# Altium footprint library connectors.PcbLib: 143 footprints (part 7 of 9)
Each footprint in its own frame and in the unit in brackets; x right, y up, seen from the top. Pads: shape width x height; smd on the part's side, far side on the other; paste and mask are expansions set on the pad; w line width, h text height; cw(c..) or ccw(c..) is an arc to the next point about the centre after c.
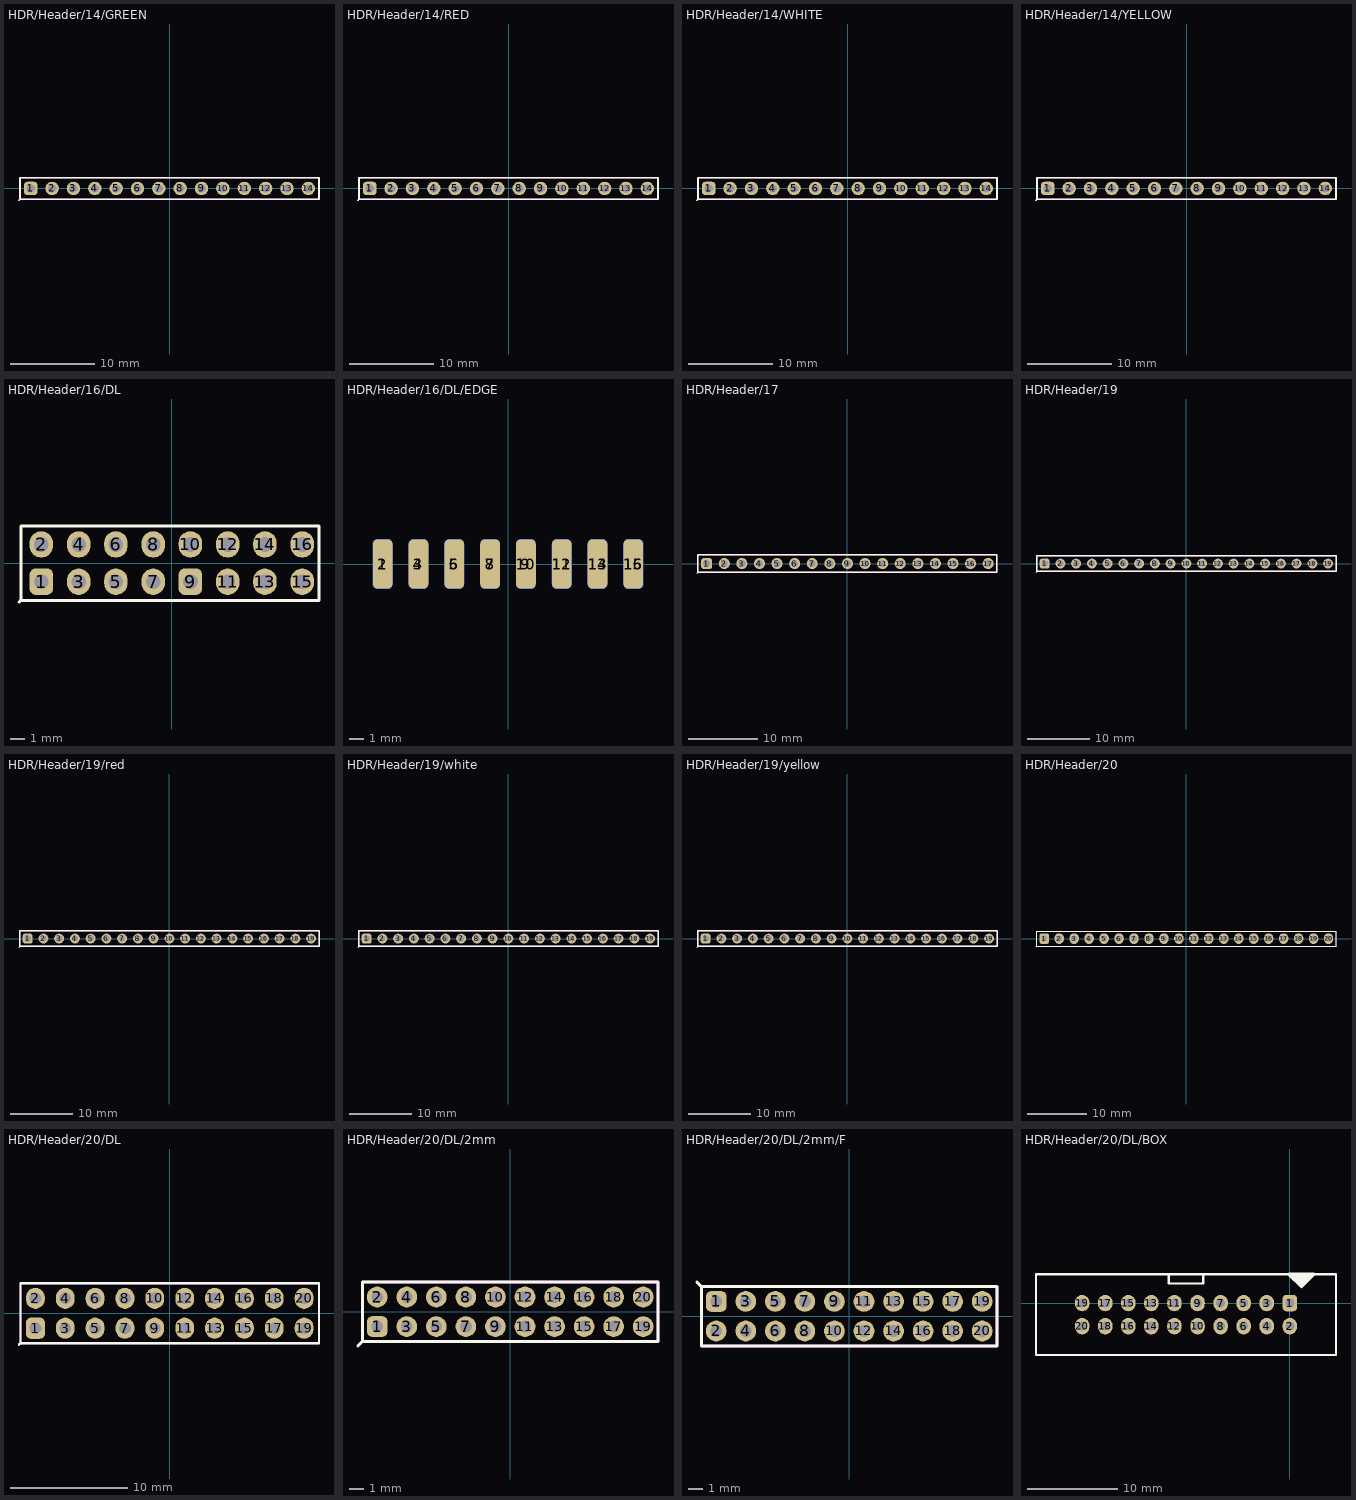
[diagram p6: the footprints below, top view; thin cyan lines are the x and y axes]

## HDR/Header/14/GREEN [mm]
pads (14):
  rrect50% 1.6x1.6 hole 1: 1(-16.51,0)
  round 1.6 hole 1: 2(-13.97,0) 3(-11.43,0) 4(-8.89,0) 5(-6.35,0) 6(-3.81,0) 7(-1.27,0) 8(1.27,0) 9(3.81,0) 10(6.35,0) 11(8.89,0) 12(11.43,0) 13(13.97,0) 14(16.51,0)
Top Overlay:
  lines w0.203: -17.907,-1.397 -17.78,-1.27 ; -17.78,-1.27 17.78,-1.27 17.78,1.27 -17.78,1.27 -17.78,-1.27
Mechanical 1:
  lines w0.203: -17.907,-1.397 -17.78,-1.27 ; -17.78,-1.27 -17.78,1.27 17.78,1.27 17.78,-1.27 -17.78,-1.27
3D body "HEADER 2x1 Pitch 2_54 GREEN.STEP": height 8.38, standoff -2.92, extent -2.54,-1.27 2.54,1.27
3D body "HEADER 2x1 Pitch 2_54 GREEN.STEP": height 8.38, standoff -2.92, extent -7.62,-1.27 -2.54,1.27
3D body "HEADER 2x1 Pitch 2_54 GREEN.STEP": height 8.38, standoff -2.92, extent -12.7,-1.27 -7.62,1.27
3D body "HEADER 2x1 Pitch 2_54 GREEN.STEP": height 8.38, standoff -2.92, extent -17.78,-1.27 -12.7,1.27
3D body "HEADER 2x1 Pitch 2_54 GREEN.STEP": height 8.38, standoff -2.92, extent 2.54,-1.27 7.62,1.27
3D body "HEADER 2x1 Pitch 2_54 GREEN.STEP": height 8.38, standoff -2.92, extent 7.62,-1.27 12.7,1.27
3D body "HEADER 2x1 Pitch 2_54 GREEN.STEP": height 8.38, standoff -2.92, extent 12.7,-1.27 17.78,1.27

## HDR/Header/14/RED [mm]
pads (14):
  rrect50% 1.6x1.6 hole 1: 1(-16.51,0)
  round 1.6 hole 1: 2(-13.97,0) 3(-11.43,0) 4(-8.89,0) 5(-6.35,0) 6(-3.81,0) 7(-1.27,0) 8(1.27,0) 9(3.81,0) 10(6.35,0) 11(8.89,0) 12(11.43,0) 13(13.97,0) 14(16.51,0)
Top Overlay:
  lines w0.203: -17.907,-1.397 -17.78,-1.27 ; -17.78,-1.27 17.78,-1.27 17.78,1.27 -17.78,1.27 -17.78,-1.27
Mechanical 1:
  lines w0.203: -17.907,-1.397 -17.78,-1.27 ; -17.78,-1.27 -17.78,1.27 17.78,1.27 17.78,-1.27 -17.78,-1.27
3D body "HEADER 2x1 Pitch 2_54 RED.STEP": height 8.38, standoff -2.92, extent -17.78,-1.27 -12.7,1.27
3D body "HEADER 2x1 Pitch 2_54 RED.STEP": height 8.38, standoff -2.92, extent -12.7,-1.27 -7.62,1.27
3D body "HEADER 2x1 Pitch 2_54 RED.STEP": height 8.38, standoff -2.92, extent -7.62,-1.27 -2.54,1.27
3D body "HEADER 2x1 Pitch 2_54 RED.STEP": height 8.38, standoff -2.92, extent -2.54,-1.27 2.54,1.27
3D body "HEADER 2x1 Pitch 2_54 RED.STEP": height 8.38, standoff -2.92, extent 2.54,-1.27 7.62,1.27
3D body "HEADER 2x1 Pitch 2_54 RED.STEP": height 8.38, standoff -2.92, extent 7.62,-1.27 12.7,1.27
3D body "HEADER 2x1 Pitch 2_54 RED.STEP": height 8.38, standoff -2.92, extent 12.7,-1.27 17.78,1.27

## HDR/Header/14/WHITE [mm]
pads (14):
  rrect50% 1.6x1.6 hole 1: 1(-16.51,0)
  round 1.6 hole 1: 2(-13.97,0) 3(-11.43,0) 4(-8.89,0) 5(-6.35,0) 6(-3.81,0) 7(-1.27,0) 8(1.27,0) 9(3.81,0) 10(6.35,0) 11(8.89,0) 12(11.43,0) 13(13.97,0) 14(16.51,0)
Top Overlay:
  lines w0.203: -17.907,-1.397 -17.78,-1.27 ; -17.78,-1.27 -17.78,1.27 17.78,1.27 17.78,-1.27 -17.78,-1.27
Mechanical 1:
  lines w0.203: -17.907,-1.397 -17.78,-1.27 ; -17.78,-1.27 17.78,-1.27 17.78,1.27 -17.78,1.27 -17.78,-1.27
3D body "HEADER 2x1 Pitch 2_54 WHITE.STEP": height 8.38, standoff -2.92, extent 12.7,-1.27 17.78,1.27
3D body "HEADER 2x1 Pitch 2_54 WHITE.STEP": height 8.38, standoff -2.92, extent 7.62,-1.27 12.7,1.27
3D body "HEADER 2x1 Pitch 2_54 WHITE.STEP": height 8.38, standoff -2.92, extent 2.54,-1.27 7.62,1.27
3D body "HEADER 2x1 Pitch 2_54 WHITE.STEP": height 8.38, standoff -2.92, extent -17.78,-1.27 -12.7,1.27
3D body "HEADER 2x1 Pitch 2_54 WHITE.STEP": height 8.38, standoff -2.92, extent -12.7,-1.27 -7.62,1.27
3D body "HEADER 2x1 Pitch 2_54 WHITE.STEP": height 8.38, standoff -2.92, extent -7.62,-1.27 -2.54,1.27
3D body "HEADER 2x1 Pitch 2_54 WHITE.STEP": height 8.38, standoff -2.92, extent -2.54,-1.27 2.54,1.27

## HDR/Header/14/YELLOW [mm]
pads (14):
  rrect50% 1.6x1.6 hole 1: 1(-16.51,0)
  round 1.6 hole 1: 2(-13.97,0) 3(-11.43,0) 4(-8.89,0) 5(-6.35,0) 6(-3.81,0) 7(-1.27,0) 8(1.27,0) 9(3.81,0) 10(6.35,0) 11(8.89,0) 12(11.43,0) 13(13.97,0) 14(16.51,0)
Top Overlay:
  lines w0.203: -17.907,-1.397 -17.78,-1.27 ; -17.78,-1.27 17.78,-1.27 17.78,1.27 -17.78,1.27 -17.78,-1.27
Mechanical 1:
  lines w0.203: -17.907,-1.397 -17.78,-1.27 ; -17.78,-1.27 -17.78,1.27 17.78,1.27 17.78,-1.27 -17.78,-1.27
3D body "HEADER 2x1 Pitch 2_54 YELLOW.STEP": height 8.38, standoff -2.92, extent -2.54,-1.27 2.54,1.27
3D body "HEADER 2x1 Pitch 2_54 YELLOW.STEP": height 8.38, standoff -2.92, extent -7.62,-1.27 -2.54,1.27
3D body "HEADER 2x1 Pitch 2_54 YELLOW.STEP": height 8.38, standoff -2.92, extent -12.7,-1.27 -7.62,1.27
3D body "HEADER 2x1 Pitch 2_54 YELLOW.STEP": height 8.38, standoff -2.92, extent -17.78,-1.27 -12.7,1.27
3D body "HEADER 2x1 Pitch 2_54 YELLOW.STEP": height 8.38, standoff -2.92, extent 2.54,-1.27 7.62,1.27
3D body "HEADER 2x1 Pitch 2_54 YELLOW.STEP": height 8.38, standoff -2.92, extent 7.62,-1.27 12.7,1.27
3D body "HEADER 2x1 Pitch 2_54 YELLOW.STEP": height 8.38, standoff -2.92, extent 12.7,-1.27 17.78,1.27

## HDR/Header/16/DL [mm]
pads (16):
  rrect50% 1.6x1.8 hole 1: 1(-8.89,-1.27) 9(1.27,-1.27)
  oval 1.6x1.8 hole 1: 2(-8.89,1.27) 3(-6.35,-1.27) 4(-6.35,1.27) 5(-3.81,-1.27) 6(-3.81,1.27) 7(-1.27,-1.27) 8(-1.27,1.27) 10(1.27,1.27) 11(3.81,-1.27) 12(3.81,1.27) 13(6.35,-1.27) 14(6.35,1.27) 15(8.89,-1.27) 16(8.89,1.27)
Top Overlay:
  lines w0.203: -10.414,-2.667 -10.287,-2.54 ; -10.287,-2.54 10.033,-2.54 10.033,2.54 -10.287,2.54 -10.287,-2.54
3D body "Samtec Header 4pin 2.54mm.STEP": height 8.89, standoff -2.03, extent -10.16,-2.54 0,0
3D body "Samtec Header 4pin 2.54mm.STEP": height 8.89, standoff -2.03, extent -10.16,0 0,2.54
3D body "Samtec Header 4pin 2.54mm.STEP": height 8.89, standoff -2.03, extent 0,0 10.16,2.54
3D body "Samtec Header 4pin 2.54mm.STEP": height 8.89, standoff -2.03, extent 0,-2.54 10.16,0

## HDR/Header/16/DL/EDGE [mm]
pads (16):
  rrect50% 1.4x3.5 smd: 1(-8.89,0) 3(-6.35,0) 5(-3.81,0) 7(-1.27,0) 9(1.27,0) 11(3.81,0) 13(6.35,0) 15(8.89,0)
  rrect50% 1.4x3.5 smd far side: 2(-8.89,0) 4(-6.35,0) 6(-3.81,0) 8(-1.27,0) 10(1.27,0) 12(3.81,0) 14(6.35,0) 16(8.89,0)
3D body "Samtec Header 4pin 2.54mm.STEP": height -0.97, standoff -3.51, extent 0,-0.127 10.16,10.795
3D body "Samtec Header 4pin 2.54mm.STEP": height 1.57, standoff -0.97, extent 0,-0.127 10.16,10.795
3D body "Samtec Header 4pin 2.54mm.STEP": height 1.57, standoff -0.97, extent -10.16,-0.127 0,10.795
3D body "Samtec Header 4pin 2.54mm.STEP": height -0.97, standoff -3.51, extent -10.16,-0.127 0,10.795

## HDR/Header/17 [mm]
pads (17):
  rrect50% 1.6x1.6 hole 1: 1(-20.32,0)
  round 1.6 hole 1: 2(-17.78,0) 3(-15.24,0) 4(-12.7,0) 5(-10.16,0) 6(-7.62,0) 7(-5.08,0) 8(-2.54,0) 9(0,0) 10(2.54,0) 11(5.08,0) 12(7.62,0) 13(10.16,0) 14(12.7,0) 15(15.24,0) 16(17.78,0) 17(20.32,0)
Top Overlay:
  lines w0.203: -21.717,-1.397 -21.59,-1.27 ; -21.59,-1.27 -21.59,1.27 21.59,1.27 21.59,-1.27 -21.59,-1.27
Mechanical 1:
  lines w0.203: -21.717,-1.397 -21.59,-1.27 ; -21.59,-1.27 21.59,-1.27 21.59,1.27 -21.59,1.27 -21.59,-1.27
3D body "Samtec Header 2pin 2.54mm.STEP": height 8.89, standoff -2.03, extent -21.59,-1.27 -16.51,1.27
3D body "Samtec Header 3pin 2.54mm.STEP": height 8.89, standoff -2.03, extent -16.51,-1.27 -8.89,1.27
3D body "Samtec Header 2pin 2.54mm.STEP": height 8.89, standoff -2.03, extent -8.89,-1.27 -3.81,1.27
3D body "Samtec Header 3pin 2.54mm.STEP": height 8.89, standoff -2.03, extent -3.81,-1.27 3.81,1.27
3D body "Samtec Header 2pin 2.54mm.STEP": height 8.89, standoff -2.03, extent 3.81,-1.27 8.89,1.27
3D body "Samtec Header 3pin 2.54mm.STEP": height 8.89, standoff -2.03, extent 8.89,-1.27 16.51,1.27
3D body "Samtec Header 2pin 2.54mm.STEP": height 8.89, standoff -2.03, extent 16.51,-1.27 21.59,1.27

## HDR/Header/19 [mm]
pads (19):
  rrect50% 1.6x1.6 hole 1: 1(-22.86,0)
  round 1.6 hole 1: 2(-20.32,0) 3(-17.78,0) 4(-15.24,0) 5(-12.7,0) 6(-10.16,0) 7(-7.62,0) 8(-5.08,0) 9(-2.54,0) 10(0,0) 11(2.54,0) 12(5.08,0) 13(7.62,0) 14(10.16,0) 15(12.7,0) 16(15.24,0) 17(17.78,0) 18(20.32,0) 19(22.86,0)
Top Overlay:
  lines w0.203: -24.257,-1.397 -24.13,-1.27 ; -24.13,-1.27 24.13,-1.27 24.13,1.27 -24.13,1.27 -24.13,-1.27
Mechanical 1:
  lines w0.203: -24.257,-1.397 -24.13,-1.27 ; -24.13,-1.27 -24.13,1.27 24.13,1.27 24.13,-1.27 -24.13,-1.27
3D body "header-1-black.STEP": height 8.89, standoff -3.05, extent 13.97,-1.27 16.51,1.27
3D body "header-1-black.STEP": height 8.89, standoff -3.05, extent 16.51,-1.27 19.05,1.27
3D body "header-1-black.STEP": height 8.89, standoff -3.05, extent 19.05,-1.27 21.59,1.27
3D body "header-1-black.STEP": height 8.89, standoff -3.05, extent 21.59,-1.27 24.13,1.27
3D body "header-1-black.STEP": height 8.89, standoff -3.05, extent 1.27,-1.27 3.81,1.27
3D body "header-1-black.STEP": height 8.89, standoff -3.05, extent 3.81,-1.27 6.35,1.27
3D body "header-1-black.STEP": height 8.89, standoff -3.05, extent 6.35,-1.27 8.89,1.27
3D body "header-1-black.STEP": height 8.89, standoff -3.05, extent 8.89,-1.27 11.43,1.27
3D body "header-1-black.STEP": height 8.89, standoff -3.05, extent 11.43,-1.27 13.97,1.27
3D body "header-1-black.STEP": height 8.89, standoff -3.05, extent -11.43,-1.27 -8.89,1.27
3D body "header-1-black.STEP": height 8.89, standoff -3.05, extent -8.89,-1.27 -6.35,1.27
3D body "header-1-black.STEP": height 8.89, standoff -3.05, extent -6.35,-1.27 -3.81,1.27
3D body "header-1-black.STEP": height 8.89, standoff -3.05, extent -3.81,-1.27 -1.27,1.27
3D body "header-1-black.STEP": height 8.89, standoff -3.05, extent -1.27,-1.27 1.27,1.27
3D body "header-1-black.STEP": height 8.89, standoff -3.05, extent -13.97,-1.27 -11.43,1.27
3D body "header-1-black.STEP": height 8.89, standoff -3.05, extent -16.51,-1.27 -13.97,1.27
3D body "header-1-black.STEP": height 8.89, standoff -3.05, extent -19.05,-1.27 -16.51,1.27
3D body "header-1-black.STEP": height 8.89, standoff -3.05, extent -21.59,-1.27 -19.05,1.27
3D body "header-1-black.STEP": height 8.89, standoff -3.05, extent -24.13,-1.27 -21.59,1.27

## HDR/Header/19/red [mm]
pads (19):
  rrect50% 1.6x1.6 hole 1: 1(-22.86,0)
  round 1.6 hole 1: 2(-20.32,0) 3(-17.78,0) 4(-15.24,0) 5(-12.7,0) 6(-10.16,0) 7(-7.62,0) 8(-5.08,0) 9(-2.54,0) 10(0,0) 11(2.54,0) 12(5.08,0) 13(7.62,0) 14(10.16,0) 15(12.7,0) 16(15.24,0) 17(17.78,0) 18(20.32,0) 19(22.86,0)
Top Overlay:
  lines w0.203: -24.257,-1.397 -24.13,-1.27 ; -24.13,-1.27 24.13,-1.27 24.13,1.27 -24.13,1.27 -24.13,-1.27
Mechanical 1:
  lines w0.203: -24.257,-1.397 -24.13,-1.27 ; -24.13,-1.27 -24.13,1.27 24.13,1.27 24.13,-1.27 -24.13,-1.27
3D body "header-1-red.STEP": height 8.89, standoff -3.05, extent 16.51,-1.27 19.05,1.27
3D body "header-1-red.STEP": height 8.89, standoff -3.05, extent 19.05,-1.27 21.59,1.27
3D body "header-1-red.STEP": height 8.89, standoff -3.05, extent 21.59,-1.27 24.13,1.27
3D body "header-1-red.STEP": height 8.89, standoff -3.05, extent 6.35,-1.27 8.89,1.27
3D body "header-1-red.STEP": height 8.89, standoff -3.05, extent 8.89,-1.27 11.43,1.27
3D body "header-1-red.STEP": height 8.89, standoff -3.05, extent 11.43,-1.27 13.97,1.27
3D body "header-1-red.STEP": height 8.89, standoff -3.05, extent 13.97,-1.27 16.51,1.27
3D body "header-1-red.STEP": height 8.89, standoff -3.05, extent -3.81,-1.27 -1.27,1.27
3D body "header-1-red.STEP": height 8.89, standoff -3.05, extent -1.27,-1.27 1.27,1.27
3D body "header-1-red.STEP": height 8.89, standoff -3.05, extent 1.27,-1.27 3.81,1.27
3D body "header-1-red.STEP": height 8.89, standoff -3.05, extent 3.81,-1.27 6.35,1.27
3D body "header-1-red.STEP": height 8.89, standoff -3.05, extent -13.97,-1.27 -11.43,1.27
3D body "header-1-red.STEP": height 8.89, standoff -3.05, extent -11.43,-1.27 -8.89,1.27
3D body "header-1-red.STEP": height 8.89, standoff -3.05, extent -8.89,-1.27 -6.35,1.27
3D body "header-1-red.STEP": height 8.89, standoff -3.05, extent -6.35,-1.27 -3.81,1.27
3D body "header-1-red.STEP": height 8.89, standoff -3.05, extent -16.51,-1.27 -13.97,1.27
3D body "header-1-red.STEP": height 8.89, standoff -3.05, extent -19.05,-1.27 -16.51,1.27
3D body "header-1-red.STEP": height 8.89, standoff -3.05, extent -21.59,-1.27 -19.05,1.27
3D body "header-1-red.STEP": height 8.89, standoff -3.05, extent -24.13,-1.27 -21.59,1.27

## HDR/Header/19/white [mm]
pads (19):
  rrect50% 1.6x1.6 hole 1: 1(-22.86,0)
  round 1.6 hole 1: 2(-20.32,0) 3(-17.78,0) 4(-15.24,0) 5(-12.7,0) 6(-10.16,0) 7(-7.62,0) 8(-5.08,0) 9(-2.54,0) 10(0,0) 11(2.54,0) 12(5.08,0) 13(7.62,0) 14(10.16,0) 15(12.7,0) 16(15.24,0) 17(17.78,0) 18(20.32,0) 19(22.86,0)
Top Overlay:
  lines w0.203: -24.257,-1.397 -24.13,-1.27 ; -24.13,-1.27 -24.13,1.27 24.13,1.27 24.13,-1.27 -24.13,-1.27
Mechanical 1:
  lines w0.203: -24.257,-1.397 -24.13,-1.27 ; -24.13,-1.27 24.13,-1.27 24.13,1.27 -24.13,1.27 -24.13,-1.27
3D body "header-1-white.STEP": height 8.89, standoff -3.05, extent -24.13,-1.27 -21.59,1.27
3D body "header-1-white.STEP": height 8.89, standoff -3.05, extent -21.59,-1.27 -19.05,1.27
3D body "header-1-white.STEP": height 8.89, standoff -3.05, extent -19.05,-1.27 -16.51,1.27
3D body "header-1-white.STEP": height 8.89, standoff -3.05, extent -16.51,-1.27 -13.97,1.27
3D body "header-1-white.STEP": height 8.89, standoff -3.05, extent -6.35,-1.27 -3.81,1.27
3D body "header-1-white.STEP": height 8.89, standoff -3.05, extent -8.89,-1.27 -6.35,1.27
3D body "header-1-white.STEP": height 8.89, standoff -3.05, extent -11.43,-1.27 -8.89,1.27
3D body "header-1-white.STEP": height 8.89, standoff -3.05, extent -13.97,-1.27 -11.43,1.27
3D body "header-1-white.STEP": height 8.89, standoff -3.05, extent 3.81,-1.27 6.35,1.27
3D body "header-1-white.STEP": height 8.89, standoff -3.05, extent 1.27,-1.27 3.81,1.27
3D body "header-1-white.STEP": height 8.89, standoff -3.05, extent -1.27,-1.27 1.27,1.27
3D body "header-1-white.STEP": height 8.89, standoff -3.05, extent -3.81,-1.27 -1.27,1.27
3D body "header-1-white.STEP": height 8.89, standoff -3.05, extent 13.97,-1.27 16.51,1.27
3D body "header-1-white.STEP": height 8.89, standoff -3.05, extent 11.43,-1.27 13.97,1.27
3D body "header-1-white.STEP": height 8.89, standoff -3.05, extent 8.89,-1.27 11.43,1.27
3D body "header-1-white.STEP": height 8.89, standoff -3.05, extent 6.35,-1.27 8.89,1.27
3D body "header-1-white.STEP": height 8.89, standoff -3.05, extent 21.59,-1.27 24.13,1.27
3D body "header-1-white.STEP": height 8.89, standoff -3.05, extent 19.05,-1.27 21.59,1.27
3D body "header-1-white.STEP": height 8.89, standoff -3.05, extent 16.51,-1.27 19.05,1.27

## HDR/Header/19/yellow [mm]
pads (19):
  rrect50% 1.6x1.6 hole 1: 1(-22.86,0)
  round 1.6 hole 1: 2(-20.32,0) 3(-17.78,0) 4(-15.24,0) 5(-12.7,0) 6(-10.16,0) 7(-7.62,0) 8(-5.08,0) 9(-2.54,0) 10(0,0) 11(2.54,0) 12(5.08,0) 13(7.62,0) 14(10.16,0) 15(12.7,0) 16(15.24,0) 17(17.78,0) 18(20.32,0) 19(22.86,0)
Top Overlay:
  lines w0.203: -24.257,-1.397 -24.13,-1.27 ; -24.13,-1.27 24.13,-1.27 24.13,1.27 -24.13,1.27 -24.13,-1.27
Mechanical 1:
  lines w0.203: -24.257,-1.397 -24.13,-1.27 ; -24.13,-1.27 -24.13,1.27 24.13,1.27 24.13,-1.27 -24.13,-1.27
3D body "header-1-yellow.STEP": height 8.89, standoff -3.05, extent 16.51,-1.27 19.05,1.27
3D body "header-1-yellow.STEP": height 8.89, standoff -3.05, extent 19.05,-1.27 21.59,1.27
3D body "header-1-yellow.STEP": height 8.89, standoff -3.05, extent 21.59,-1.27 24.13,1.27
3D body "header-1-yellow.STEP": height 8.89, standoff -3.05, extent 6.35,-1.27 8.89,1.27
3D body "header-1-yellow.STEP": height 8.89, standoff -3.05, extent 8.89,-1.27 11.43,1.27
3D body "header-1-yellow.STEP": height 8.89, standoff -3.05, extent 11.43,-1.27 13.97,1.27
3D body "header-1-yellow.STEP": height 8.89, standoff -3.05, extent 13.97,-1.27 16.51,1.27
3D body "header-1-yellow.STEP": height 8.89, standoff -3.05, extent -3.81,-1.27 -1.27,1.27
3D body "header-1-yellow.STEP": height 8.89, standoff -3.05, extent -1.27,-1.27 1.27,1.27
3D body "header-1-yellow.STEP": height 8.89, standoff -3.05, extent 1.27,-1.27 3.81,1.27
3D body "header-1-yellow.STEP": height 8.89, standoff -3.05, extent 3.81,-1.27 6.35,1.27
3D body "header-1-yellow.STEP": height 8.89, standoff -3.05, extent -13.97,-1.27 -11.43,1.27
3D body "header-1-yellow.STEP": height 8.89, standoff -3.05, extent -11.43,-1.27 -8.89,1.27
3D body "header-1-yellow.STEP": height 8.89, standoff -3.05, extent -8.89,-1.27 -6.35,1.27
3D body "header-1-yellow.STEP": height 8.89, standoff -3.05, extent -6.35,-1.27 -3.81,1.27
3D body "header-1-yellow.STEP": height 8.89, standoff -3.05, extent -16.51,-1.27 -13.97,1.27
3D body "header-1-yellow.STEP": height 8.89, standoff -3.05, extent -19.05,-1.27 -16.51,1.27
3D body "header-1-yellow.STEP": height 8.89, standoff -3.05, extent -21.59,-1.27 -19.05,1.27
3D body "header-1-yellow.STEP": height 8.89, standoff -3.05, extent -24.13,-1.27 -21.59,1.27

## HDR/Header/20 [mm]
pads (20):
  rrect50% 1.6x1.8 hole 1: 1(-24.13,0)
  oval 1.6x1.8 hole 1: 2(-21.59,0) 3(-19.05,0) 4(-16.51,0) 5(-13.97,0) 6(-11.43,0) 7(-8.89,0) 8(-6.35,0) 9(-3.81,0) 10(-1.27,0) 11(1.27,0) 12(3.81,0) 13(6.35,0) 14(8.89,0) 15(11.43,0) 16(13.97,0) 17(16.51,0) 18(19.05,0) 19(21.59,0) 20(24.13,0)
Top Overlay:
  lines w0.203: -25.527,-1.397 -25.4,-1.27 ; -25.4,-1.27 -25.4,1.27 25.4,1.27 25.4,-1.27 -25.4,-1.27
Mechanical 1:
  lines w0.203: -25.527,-1.397 -25.4,-1.27 ; -25.4,-1.27 25.4,-1.27 25.4,1.27 -25.4,1.27 -25.4,-1.27
3D body "Samtec Header 2pin 2.54mm.STEP": height 8.89, standoff -2.03, extent -25.4,-1.27 -20.32,1.27
3D body "Samtec Header 3pin 2.54mm.STEP": height 8.89, standoff -2.03, extent -20.32,-1.27 -12.7,1.27
3D body "Samtec Header 2pin 2.54mm.STEP": height 8.89, standoff -2.03, extent -12.7,-1.27 -7.62,1.27
3D body "Samtec Header 3pin 2.54mm.STEP": height 8.89, standoff -2.03, extent -7.62,-1.27 0,1.27
3D body "Samtec Header 2pin 2.54mm.STEP": height 8.89, standoff -2.03, extent 0,-1.27 5.08,1.27
3D body "Samtec Header 3pin 2.54mm.STEP": height 8.89, standoff -2.03, extent 5.08,-1.27 12.7,1.27
3D body "Samtec Header 2pin 2.54mm.STEP": height 8.89, standoff -2.03, extent 12.7,-1.27 17.78,1.27
3D body "Samtec Header 3pin 2.54mm.STEP": height 8.89, standoff -2.03, extent 17.78,-1.27 25.4,1.27

## HDR/Header/20/DL [mm]
pads (20):
  rrect50% 1.6x1.8 hole 1: 1(-11.43,-1.27)
  oval 1.6x1.8 hole 1: 2(-11.43,1.27) 3(-8.89,-1.27) 4(-8.89,1.27) 5(-6.35,-1.27) 6(-6.35,1.27) 7(-3.81,-1.27) 8(-3.81,1.27) 9(-1.27,-1.27) 10(-1.27,1.27) 11(1.27,-1.27) 12(1.27,1.27) 13(3.81,-1.27) 14(3.81,1.27) 15(6.35,-1.27) 16(6.35,1.27) 17(8.89,-1.27) 18(8.89,1.27) 19(11.43,-1.27) 20(11.43,1.27)
Top Overlay:
  lines w0.203: -12.827,-2.667 -12.7,-2.54 ; -12.7,-2.54 12.7,-2.54 12.7,2.54 -12.7,2.54 -12.7,-2.54
Mechanical 1:
  lines w0.203: -12.827,-2.667 -12.7,-2.54 ; -12.7,-2.54 -12.7,2.54 12.7,2.54 12.7,-2.54 -12.7,-2.54
3D body "Samtec Header 3pin 2.54mm.STEP": height 8.89, standoff -2.03, extent 5.08,-2.54 12.7,0
3D body "Samtec Header 2pin 2.54mm.STEP": height 8.89, standoff -2.03, extent 0,-2.54 5.08,0
3D body "Samtec Header 3pin 2.54mm.STEP": height 8.89, standoff -2.03, extent -7.62,-2.54 0,0
3D body "Samtec Header 2pin 2.54mm.STEP": height 8.89, standoff -2.03, extent -12.7,-2.54 -7.62,0
3D body "Samtec Header 3pin 2.54mm.STEP": height 8.89, standoff -2.03, extent 5.08,0 12.7,2.54
3D body "Samtec Header 2pin 2.54mm.STEP": height 8.89, standoff -2.03, extent 0,0 5.08,2.54
3D body "Samtec Header 3pin 2.54mm.STEP": height 8.89, standoff -2.03, extent -7.62,0 0,2.54
3D body "Samtec Header 2pin 2.54mm.STEP": height 8.89, standoff -2.03, extent -12.7,0 -7.62,2.54

## HDR/Header/20/DL/2mm [mm]
pads (20):
  rrect50% 1.4x1.4 hole 0.8: 1(-9,-1)
  round 1.4 hole 0.8: 2(-9,1) 3(-7,-1) 4(-7,1) 5(-5,-1) 6(-5,1) 7(-3,-1) 8(-3,1) 9(-1,-1) 10(-1,1) 11(1,-1) 12(1,1) 13(3,-1) 14(3,1) 15(5,-1) 16(5,1) 17(7,-1) 18(7,1) 19(9,-1) 20(9,1)
Top Overlay:
  lines w0.203: -10.3,-2.3 -10,-2 ; -10,-2 10,-2 10,0 10,2 -10,2 -10,0 -10,-2
Mechanical 1:
  lines w0.203: -10.3,-2.3 -10,-2 ; -10,-2 10,-2 10,0 10,2 -10,2 -10,0 -10,-2
3D body "pin_header_a-sl200-eg-g10d.stp": height 6, standoff -2.8, extent -9.975,-2 9.975,0
3D body "pin_header_a-sl200-eg-g10d.stp": height 6, standoff -2.8, extent -9.975,0 9.975,2

## HDR/Header/20/DL/2mm/F [mm]
pads (20):
  rrect50% 1.4x1.4 hole 0.8: 1(-9,1)
  round 1.4 hole 0.8: 2(-9,-1) 3(-7,1) 4(-7,-1) 5(-5,1) 6(-5,-1) 7(-3,1) 8(-3,-1) 9(-1,1) 10(-1,-1) 11(1,1) 12(1,-1) 13(3,1) 14(3,-1) 15(5,1) 16(5,-1) 17(7,1) 18(7,-1) 19(9,1) 20(9,-1)
Top Overlay:
  lines w0.203: -10.3,2.3 -10,2 ; -10,2 10,2 10,0 10,-2 -10,-2 -10,0 -10,2
Mechanical 1:
  lines w0.203: -10.3,2.3 -10,2 ; -10,2 10,2 10,0 10,-2 -10,-2 -10,0 -10,2
3D body "User Library-PBS2-10-1.STEP": height 4.4, standoff -3.05, extent -10,-0.019 10,1.981
3D body "User Library-PBS2-10-1.STEP": height 4.4, standoff -3.05, extent -10,-2 10,0

## HDR/Header/20/DL/BOX [mm] "20 pins Male Box Header, IDC Socket"
pads (20):
  rrect50% 1.6x1.8 hole 1: 1(0,0)
  oval 1.6x1.8 hole 1: 2(0,-2.54) 3(-2.54,0) 4(-2.54,-2.54) 5(-5.08,0) 6(-5.08,-2.54) 7(-7.62,0) 8(-7.62,-2.54) 9(-10.16,0) 10(-10.16,-2.54) 11(-12.7,0) 12(-12.7,-2.54) 13(-15.24,0) 14(-15.24,-2.54) 15(-17.78,0) 16(-17.78,-2.54) 17(-20.32,0) 18(-20.32,-2.54) 19(-22.86,0) 20(-22.86,-2.54)
Top Overlay:
  region: 2.764,3.272 2.804,3.175 2.764,3.078 1.367,1.681 1.27,1.641 1.173,1.681 -0.224,3.078 -0.264,3.175 -0.224,3.272 -0.127,3.312 2.667,3.312
  lines w0.254: -13.335,3.175 -13.335,2.159 -9.525,2.159 -9.525,3.175 ; -27.94,-5.715 5.08,-5.715 5.08,3.175 -27.94,3.175 -27.94,-5.715
3D body "Samtec-TST-110-01-G-D.step": height 9.27, standoff -2.92, extent -27.94,-6.045 5.08,3.429